# EAGLE library part MCP23S17 (library bytewerk-logic)
16 bit I/O EXPANDER SPI
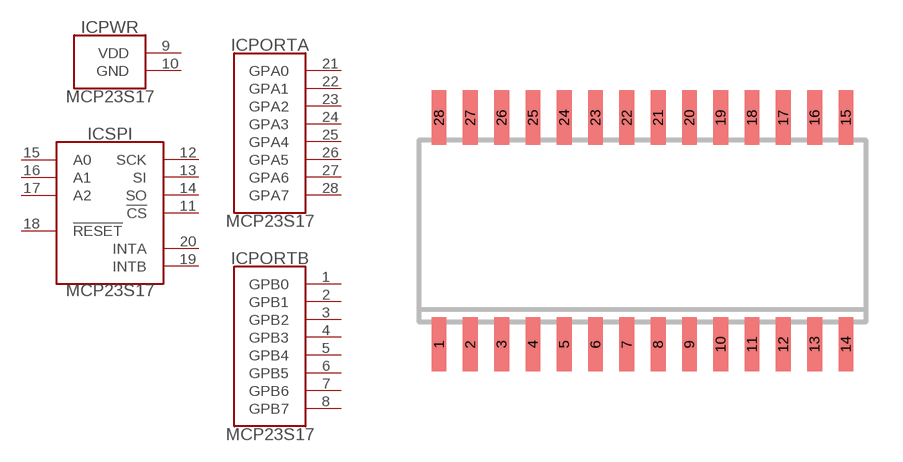
[diagram p3: symbol with the pads of SO28W; footprint SO28W]

Designator prefix IC; gates PORTA=MCP23S17-PORTA PORTB=MCP23S17-PORTB PWR=MCP23S17-PWR SPI=MCP23S17-SPI

## MCP23S17 (MF: Microchip; MPN: MCP23S17T-E/SO; OC_FARNELL: 2101293)  [SO28W]
1  PORTB:GPB0
2  PORTB:GPB1
3  PORTB:GPB2
4  PORTB:GPB3
5  PORTB:GPB4
6  PORTB:GPB5
7  PORTB:GPB6
8  PORTB:GPB7
9  PWR:VDD  pwr
10  PWR:GND  pwr
11  SPI:!CS!  in
12  SPI:SCK  in
13  SPI:SI  in
14  SPI:SO  out
15  SPI:A0  in
16  SPI:A1  in
17  SPI:A2  in
18  SPI:!RESET!  in
19  SPI:INTB  out
20  SPI:INTA  out
21  PORTA:GPA0
22  PORTA:GPA1
23  PORTA:GPA2
24  PORTA:GPA3
25  PORTA:GPA4
26  PORTA:GPA5
27  PORTA:GPA6
28  PORTA:GPA7

## Footprint SO28W (pad centres in mm)
SMALL OUTLINE INTEGRATED CIRCUIT wide body 7.5 mm/JEDEC MO-119AB
smd 0.6 x 2.2: 1 -8.255,-4.6; 2 -6.985,-4.6; 3 -5.715,-4.6; 4 -4.445,-4.6; 5 -3.175,-4.6; 6 -1.905,-4.6; 7 -0.635,-4.6; 8 0.635,-4.6; 9 1.905,-4.6; 10 3.175,-4.6; 11 4.445,-4.6; 12 5.715,-4.6; 13 6.985,-4.6; 14 8.255,-4.6; 15 8.255,4.6; 16 6.985,4.6; 17 5.715,4.6; 18 4.445,4.6; 19 3.175,4.6; 20 1.905,4.6; 21 0.635,4.6; 22 -0.635,4.6; 23 -1.905,4.6; 24 -3.175,4.6; 25 -4.445,4.6; 26 -5.715,4.6; 27 -6.985,4.6; 28 -8.255,4.6